# Altium footprint library PcbLib.PcbLib: 38 footprints (part 2 of 3)
Each footprint in its own frame and in the unit in brackets; x right, y up, seen from the top. Pads: shape width x height; smd on the part's side, far side on the other; paste and mask are expansions set on the pad; w line width, h text height; cw(c..) or ccw(c..) is an arc to the next point about the centre after c.
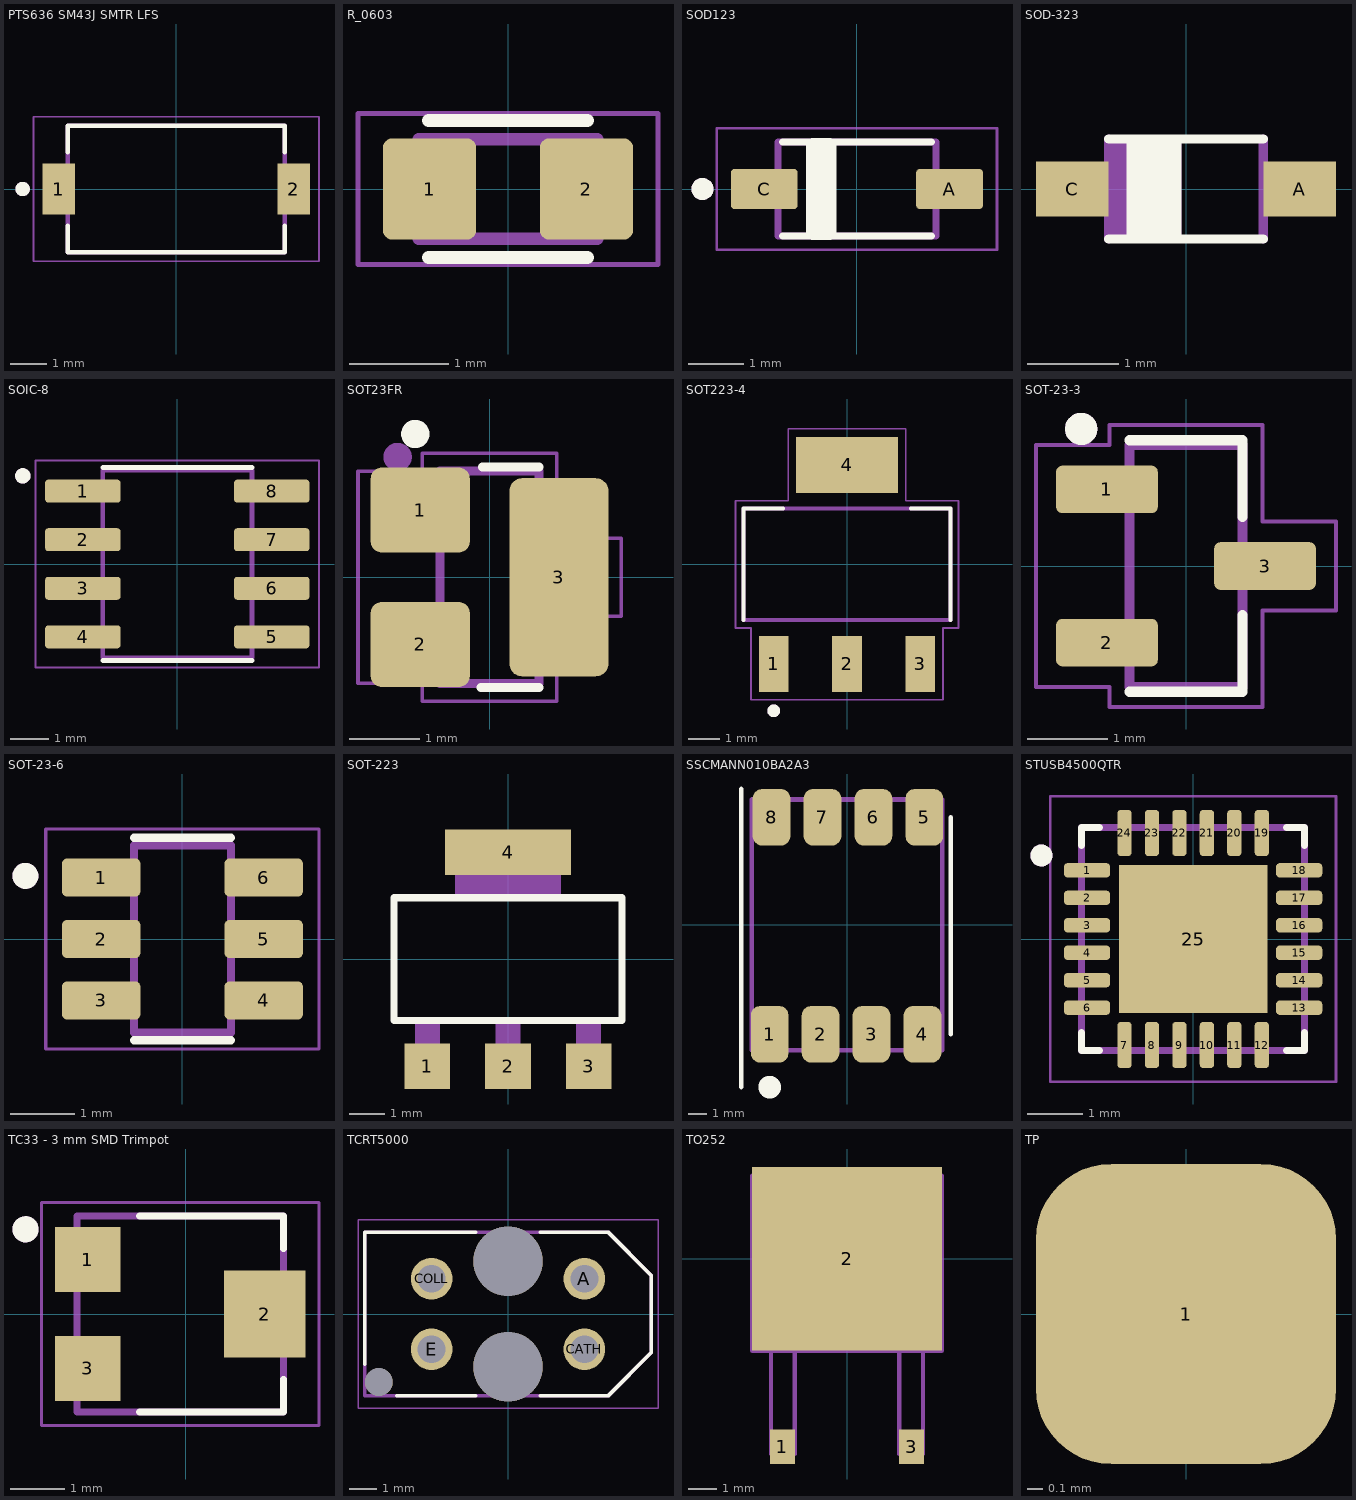
[diagram p1: the footprints below, top view; thin cyan lines are the x and y axes]

## PTS636 SM43J SMTR LFS [mm]
pads (2):
  rect 0.9x1.4 smd: 1(-3.25,0) 2(3.25,0)
Top Overlay:
  circle w0.2: c-4.25,0 r0.1
  lines w0.127: -3,-1.014 -3,-1.75 3,-1.75 3,-1.014 ; -3,1.014 -3,1.75 3,1.75 3,1.014
Mechanical 13:
  circle w0.2: c-4.25,0 r0.1
  lines w0.127: -3,-1.75 -3,1.75 3,1.75 3,-1.75 -3,-1.75
Mechanical 15:
  lines w0.05: -3.95,-2 -3.95,2 3.95,2 3.95,-2 -3.95,-2
3D body "PTS636 SM43J SMTR LFS.STEP": height 4.3, standoff 0, extent -3.575,-1.725 3.525,1.775

## R_0603 [mm]
pads (2):
  rrect20% 0.94x1.02 smd: 1(-0.79,0) 2(0.79,0)
Top Overlay:
  lines w0.127: -0.8,-0.69 0.8,-0.69 ; -0.8,0.69 0.8,0.69
Mechanical 13:
  lines w0.127: -0.9,-0.5 -0.9,0.5 0.9,0.5 0.9,-0.5 -0.9,-0.5
Mechanical 15:
  lines w0.05: -1.51,-0.76 -1.51,0.76 1.51,0.76 1.51,-0.76 -1.51,-0.76
3D body "R0603.STEP": height 0.45, standoff 0, extent -0.8,-0.4 0.8,0.4

## SOD123 [mm]
pads (2):
  rrect18% 1.21x0.73 smd: A(1.68,0) C(-1.68,0)
Top Overlay:
  circle w0.2: c-2.8,0 r0.1
  lines w0.127: -1.35,-0.85 1.35,-0.85 ; -1.35,0.85 1.35,0.85
  lines w0.254: -0.65,-0.8 -0.65,0.8 -0.8,0.8 ; -0.8,0.8 -0.8,-0.8 -0.5,-0.8 -0.5,0.8 -0.8,0.8
Mechanical 13:
  circle w0.2: c-2.8,0 r0.1
  lines w0.127: -1.43,-0.85 1.43,-0.85 1.43,0.85 -1.43,0.85 -1.43,-0.85
Mechanical 15:
  lines w0.05: -2.54,-1.1 2.54,-1.1 2.54,1.1 -2.54,1.1 -2.54,-1.1
3D body "1N4148W-7.STEP": height 1.44, standoff -0.01, extent -1.875,-0.75 1.775,0.8

## SOD-323 [mm]
pads (2):
  rect 0.8x0.6 smd: A(1.25,0) C(-1.25,0)
Top Overlay:
  region: -0.05,-0.55 -0.65,-0.55 -0.65,0.55 -0.05,0.55
  lines w0.102: -0.85,-0.55 0.85,-0.55 ; -0.85,0.55 0.85,0.55
Mechanical 13:
  region: -0.05,-0.55 -0.85,-0.55 -0.85,0.55 -0.05,0.55
  region: 1.35,-0.15 0.8,-0.15 0.8,0.15 1.35,0.15
  region: -0.8,-0.15 -1.35,-0.15 -1.35,0.15 -0.8,0.15
  lines w0.102: -0.85,-0.55 -0.85,0.55 ; 0.85,-0.55 0.85,0.55
3D body "SOD-323.STEP": height 1.1, standoff 0, extent -1.3,-0.625 1.2,0.625

## SOIC-8 [mm]
pads (8):
  rrect25% 1.97x0.6 smd: 1(-2.47,1.905) 2(-2.47,0.635) 3(-2.47,-0.635) 4(-2.47,-1.905) 5(2.47,-1.905) 6(2.47,-0.635) 7(2.47,0.635) 8(2.47,1.905)
Top Overlay:
  circle w0.2: c-4.04,2.305 r0.1
  lines w0.127: -1.95,-2.525 1.95,-2.525 ; -1.95,2.525 1.95,2.525
Mechanical 13:
  circle w0.2: c-4.04,2.305 r0.1
  lines w0.127: -1.95,-2.452 -1.95,2.452 1.95,2.452 1.95,-2.452 -1.95,-2.452
Mechanical 15:
  lines w0.05: -3.705,-2.702 -3.705,2.702 3.705,2.702 3.705,-2.702 -3.705,-2.702
3D body "SOIC-8.STEP": height 1.75, standoff 0, extent -3,-2.45 3,2.45

## SOT23FR [mm]
pads (3):
  rrect25% 1.4x1.2 smd: 1(-0.98,0.95) 2(-0.98,-0.95)
  rrect25% 1.4x2.8 smd: 3(0.98,0)
Top Overlay:
  circle w0.2: c-1.05,2.025 r0.1
  lines w0.127: -0.125,-1.559 0.7,-1.559 ; -0.1,1.559 0.7,1.559
Mechanical 13:
  circle w0.2: c-1.3,1.7 r0.1
  lines w0.127: -0.7,-1.5 0.7,-1.5 0.7,1.5 -0.7,1.5 -0.7,-1.5
Mechanical 15:
  lines w0.05: -1.86,-1.5 -0.95,-1.5 -0.95,-1.75 0.95,-1.75 0.95,-0.55 1.86,-0.55 1.86,0.55 0.95,0.55 0.95,1.75 -0.95,1.75 -0.95,1.5 -1.86,1.5 -1.86,-1.5
3D body "SOT23-3.STEP": height 1.1, standoff 0, extent -1.225,-1.475 1.075,1.425

## SOT223-4 [mm]
pads (4):
  rect 0.93x1.76 smd: 1(-2.3,-3.125) 2(0,-3.125) 3(2.3,-3.125)
  rect 3.19x1.76 smd: 4(0,3.125)
Top Overlay:
  circle w0.2: c-2.3,-4.6 r0.1
  lines w0.127: -3.25,-1.75 -3.25,1.75 -2.01,1.75 ; 2.01,1.75 3.25,1.75 3.25,-1.75
Mechanical 13:
  circle w0.2: c-2.3,-4.6 r0.1
  lines w0.127: -3.25,-1.75 3.25,-1.75 3.25,1.75 -3.25,1.75 -3.25,-1.75
Mechanical 15:
  lines w0.05: -3.5,-2 -3.5,2 -1.845,2 -1.845,4.255 1.845,4.255 1.845,2 3.5,2 3.5,-2 3.015,-2 3.015,-4.255 -3.015,-4.255 -3.015,-2 -3.5,-2
3D body "SOT223-4.STEP": height 1.8, standoff 0, extent -3.225,-3.649 3.275,3.349

## SOT-23-3 [mm]
pads (3):
  rrect25% 1.26x0.59 smd: 1(-0.98,0.95) 2(-0.98,-0.95) 3(0.98,0)
Top Overlay:
  circle w0.2: c-1.3,1.7 r0.1
  lines w0.127: -0.7,-1.559 0.7,-1.559 0.7,-0.609 ; -0.7,1.559 0.7,1.559 0.7,0.609
Mechanical 13:
  circle w0.2: c-1.3,1.7 r0.1
  lines w0.127: -0.7,-1.5 0.7,-1.5 0.7,1.5 -0.7,1.5 -0.7,-1.5
Mechanical 15:
  lines w0.05: -1.86,-1.5 -0.95,-1.5 -0.95,-1.75 0.95,-1.75 0.95,-0.55 1.86,-0.55 1.86,0.55 0.95,0.55 0.95,1.75 -0.95,1.75 -0.95,1.5 -1.86,1.5 -1.86,-1.5
3D body "SOT23-3.STEP": height 1.1, standoff 0, extent -1.225,-1.475 1.075,1.425

## SOT-23-6 [mm]
pads (6):
  rrect25% 1.21x0.59 smd: 1(-1.255,0.95) 2(-1.255,0) 3(-1.255,-0.95) 4(1.255,-0.95) 5(1.255,0) 6(1.255,0.95)
Top Overlay:
  circle w0.2: c-2.425,0.975 r0.1
  lines w0.127: -0.75,-1.565 0.75,-1.565 ; -0.75,1.565 0.75,1.565
Mechanical 13:
  circle w0.2: c-2.425,0.975 r0.1
  lines w0.127: -0.75,-1.45 0.75,-1.45 0.75,1.45 -0.75,1.45 -0.75,-1.45
Mechanical 15:
  lines w0.05: -2.11,-1.7 2.11,-1.7 2.11,1.7 -2.11,1.7 -2.11,-1.7
3D body "SOT26-6.STEP": height 1.2, standoff 0, extent -1.4,-1.45 1.4,1.45

## SOT-223 [mm]
pads (4):
  rect 1.3x1.3 smd: 1(-2.3,-3.05) 2(0,-3.05) 3(2.3,-3.05)
  rect 3.6x1.3 smd paste-3: 4(0,3.05)
Top Overlay:
  lines w0.203: -3.25,-1.75 3.25,-1.75 3.25,1.75 -3.25,1.75 -3.25,-1.75
Top Paste:
  region: -0.15,2.45 -1.75,2.45 -1.75,3.65 -0.15,3.65
  region: 1.75,2.45 0.15,2.45 0.15,3.65 1.75,3.65
Mechanical 13:
  region: 1.5,1.75 -1.5,1.75 -1.5,3.5 1.5,3.5
  region: 0.35,-3.5 -0.35,-3.5 -0.35,-1.75 0.35,-1.75
  region: -1.95,-3.5 -2.65,-3.5 -2.65,-1.75 -1.95,-1.75
  region: 2.65,-3.5 1.95,-3.5 1.95,-1.75 2.65,-1.75
3D body "SOT-223-1.STEP": height 1.8, standoff 0, extent -3.275,-3.499 3.225,3.499

## SSCMANN010BA2A3 [mm] "HONEYWLL"
pads (8):
  rrect50% 2x3 smd: 1(-4.1,-5.8) 2(-1.4,-5.8) 3(1.3,-5.8) 4(4,-5.8) 5(4.1,5.7) 6(1.4,5.7) 7(-1.3,5.7) 8(-4,5.7)
Top Overlay:
  circle w1: c-4.1,-8.6 r0.1
  lines w0.254: -5.6,-8.6 -5.6,7.2 ; 5.5,-5.8 5.5,5.7
Mechanical 1:
  lines w0.254: -5.05,6.65 -5.05,-6.65 5.05,-6.65 5.05,6.65 -4.95,6.65
3D body: height 14, standoff 0.23, extent -4.1,-5.75 4.1,5.75

## STUSB4500QTR [mm] "QFN-24"
pads (25):
  rrect50% 0.84x0.26 smd: 1(-1.93,1.25) 2(-1.93,0.75) 3(-1.93,0.25) 4(-1.93,-0.25) 5(-1.93,-0.75) 6(-1.93,-1.25) 13(1.93,-1.25) 14(1.93,-0.75) 15(1.93,-0.25) 16(1.93,0.25) 17(1.93,0.75) 18(1.93,1.25)
  rrect50% 0.26x0.84 smd: 7(-1.25,-1.93) 8(-0.75,-1.93) 9(-0.25,-1.93) 10(0.25,-1.93) 11(0.75,-1.93) 12(1.25,-1.93) 19(1.25,1.93) 20(0.75,1.93) 21(0.25,1.93) 22(-0.25,1.93) 23(-0.75,1.93) 24(-1.25,1.93)
  rect 2.7x2.7 smd paste-2: 25(0,0)
Top Overlay:
  circle w0.2: c-2.76,1.52 r0.1
  lines w0.127: -2.03,-1.7 -2.03,-2.03 -1.7,-2.03 ; -2.03,1.7 -2.03,2.03 -1.7,2.03 ; 1.7,-2.03 2.03,-2.03 2.03,-1.7 ; 1.7,2.03 2.03,2.03 2.03,1.7
Top Paste:
  region: 1.09,-1.09 0.13,-1.09 0.13,-0.13 1.09,-0.13
  region: -0.13,-1.09 -1.09,-1.09 -1.09,-0.13 -0.13,-0.13
  region: -0.13,0.13 -1.09,0.13 -1.09,1.09 -0.13,1.09
  region: 1.09,0.13 0.13,0.13 0.13,1.09 1.09,1.09
Mechanical 13:
  circle w0.2: c-2.76,1.52 r0.1
  lines w0.127: -2.03,-2.03 -2.03,2.03 2.03,2.03 2.03,-2.03 -2.03,-2.03
Mechanical 15:
  lines w0.05: -2.6,-2.6 -2.6,2.6 2.6,2.6 2.6,-2.6 -2.6,-2.6
3D body "STUSB4500LQTR.STEP": height 0.95, standoff -0.05, extent -2,-2 2,2

## TC33 - 3 mm SMD Trimpot [mm]
pads (3):
  rect 1.2x1.2 smd: 1(-1.8,1) 3(-1.8,-1)
  rect 1.5x1.6 smd: 2(1.45,0)
Top Overlay:
  circle w0.24: c-2.946,1.558 r0.12
  lines w0.127: -0.85,-1.8 1.8,-1.8 1.8,-1.2 ; -0.85,1.8 1.8,1.8 1.8,1.2
Mechanical 13:
  circle w0.24: c-2.946,1.558 r0.12
  lines w0.127: -2,-1.8 -2,1.8 1.8,1.8 1.8,-1.8 -2,-1.8
Mechanical 15:
  lines w0.05: -2.65,-2.05 -2.65,2.05 2.45,2.05 2.45,-2.05 -2.65,-2.05
3D body "TC33X-2-XX.STEP": height 1.1, standoff -0.1, extent -2.025,-1.475 1.775,1.525

## TCRT5000 [mm]
pads (7):
  round 1.5 hole 1: A(2.75,1.27) CATH(2.75,-1.27) COLL(-2.75,1.27) E(-2.75,-1.27)
  round 1 hole 1 unplated: ""(-4.65,-2.45)
  round 2.5 hole 2.5 unplated: ""(0,-1.9) ""(0,1.9)
Top Overlay:
  lines w0.127: -5.15,-1.8 -5.15,2.95 -1.17,2.95 ; -4,-2.95 -1.17,-2.95 ; 1.17,-2.95 3.6,-2.95 5.15,-1.4 5.15,1.4 3.6,2.95 1.17,2.95
Mechanical 13:
  lines w0.127: -5.15,-2.95 -5.15,2.95 3.6,2.95 5.15,1.4 5.15,-1.4 3.6,-2.95 -5.15,-2.95
Mechanical 15:
  lines w0.05: -5.4,-3.4 -5.4,3.4 5.4,3.4 5.4,-3.4 -5.4,-3.4
3D body "TCRT500.STEP": height 7.2, standoff -3.8, extent -5.075,-3.375 5.125,3.425

## TO252 [mil]
pads (3):
  rect 35x48 smd: 1(-90,-262) 3(90,-262)
  rect 265x256 smd: 2(0,0)
Mechanical 13:
  lines w6: -132,-128 132,-128 132,116 -132,116 -132,-128 ; -106,-272 -106,-128 -73,-128 -73,-272 -106,-272 ; 73,-272 73,-128 106,-128 106,-272 73,-272
3D body "TO252.STEP": height 100.39, standoff -6.69, extent -129.72,-268.9 127.76,121.26

## TP [mm]
pads (1):
  rrect50% 2x2 smd: 1(0,0)